# Altium schematic symbol library 6903 5710 xx 72.SchLib: 12 symbols
Pins are listed as number, name and electrical type; pins without a type are passive.

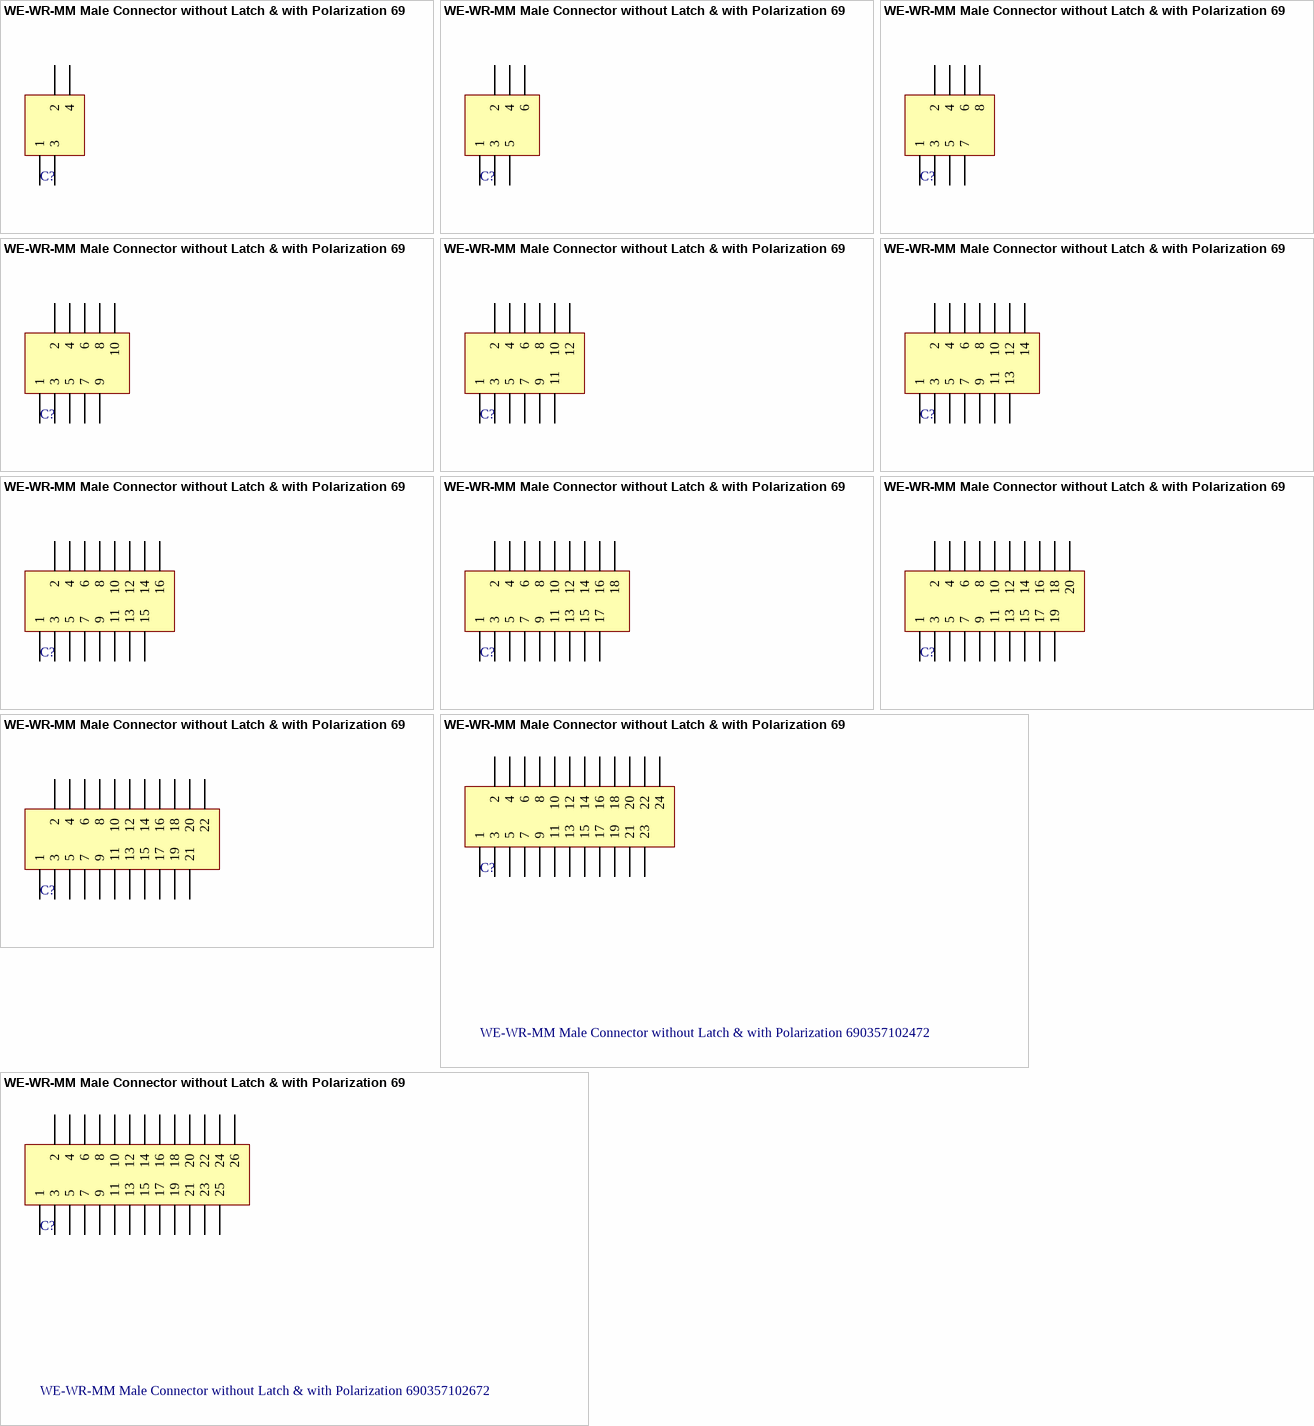
[diagram p0: symbols WE-WR-MM Male Connector without Latch & with Polarization 690357100472 to WE-WR-MM Male Connector without Latch & with Polarization 690357102672]

## WE-WR-MM Male Connector without Latch & with Polarization 690357100472
designator C?
WR-MM Male Connector without Latch & with Polarization; Manufacturer: Würth Elektronik eiSos GmbH; ComponentLink1 Description: Manufacturer; ComponentLink2 Description: Datasheet; NoPins: 4; Created Date: 19 April 2013; partNo: 690357100472; ComponentLink1URL: http://www.we-online.com; ComponentLink2URL: http://katalog.we-online.de/em/datasheet/69035710xx72.pdf; Created by: Karrer Zheng
footprint 690357100472 (4 pins, straight)
pins: 1, 2, 3, 4

## WE-WR-MM Male Connector without Latch & with Polarization 690357100672
designator C?
WR-MM Male Connector without Latch & with Polarization; Manufacturer: Würth Elektronik eiSos GmbH; ComponentLink1 Description: Manufacturer; ComponentLink2 Description: Datasheet; NoPins: 6; Created Date: 19 April 2013; partNo: 690357100672; ComponentLink1URL: http://www.we-online.com; ComponentLink2URL: http://katalog.we-online.de/em/datasheet/69035710xx72.pdf; Created by: Karrer Zheng
footprint 690357100672 (6 pins, straight)
pins: 1, 2, 3, 4, 5, 6

## WE-WR-MM Male Connector without Latch & with Polarization 690357100872
designator C?
WR-MM Male Connector without Latch & with Polarization; Manufacturer: Würth Elektronik eiSos GmbH; ComponentLink1 Description: Manufacturer; ComponentLink2 Description: Datasheet; NoPins: 8; Created Date: 19 April 2013; partNo: 690357100872; ComponentLink1URL: http://www.we-online.com; ComponentLink2URL: http://katalog.we-online.de/em/datasheet/69035710xx72.pdf; Created by: Karrer Zheng
footprint 690357100872 (8 pins, straight)
pins: 1, 2, 3, 4, 5, 6, 7, 8

## WE-WR-MM Male Connector without Latch & with Polarization 690357101072
designator C?
WR-MM Male Connector without Latch & with Polarization; Manufacturer: Würth Elektronik eiSos GmbH; ComponentLink1 Description: Manufacturer; ComponentLink2 Description: Datasheet; NoPins: 10; Created Date: 19 April 2013; partNo: 690357101072; ComponentLink1URL: http://www.we-online.com; ComponentLink2URL: http://katalog.we-online.de/em/datasheet/69035710xx72.pdf; Created by: Karrer Zheng
footprint 690357101072 (10 pins, straight)
pins: 1, 2, 3, 4, 5, 6, 7, 8, 9, 10

## WE-WR-MM Male Connector without Latch & with Polarization 690357101272
designator C?
WR-MM Male Connector without Latch & with Polarization; Manufacturer: Würth Elektronik eiSos GmbH; ComponentLink1 Description: Manufacturer; ComponentLink2 Description: Datasheet; NoPins: 12; Created Date: 19 April 2013; partNo: 690357101272; ComponentLink1URL: http://www.we-online.com; ComponentLink2URL: http://katalog.we-online.de/em/datasheet/69035710xx72.pdf; Created by: Karrer Zheng
footprint 690357101272 (12 pins, straight)
pins: 1, 2, 3, 4, 5, 6, 7, 8, 9, 10, 11, 12

## WE-WR-MM Male Connector without Latch & with Polarization 690357101472
designator C?
WR-MM Male Connector without Latch & with Polarization; Manufacturer: Würth Elektronik eiSos GmbH; ComponentLink1 Description: Manufacturer; ComponentLink2 Description: Datasheet; NoPins: 14; Created Date: 19 April 2013; partNo: 690357101472; ComponentLink1URL: http://www.we-online.com; ComponentLink2URL: http://katalog.we-online.de/em/datasheet/69035710xx72.pdf; Created by: Karrer Zheng
footprint 690357101472 (14 pins, straight)
pins: 1, 2, 3, 4, 5, 6, 7, 8, 9, 10, 11, 12, 13, 14

## WE-WR-MM Male Connector without Latch & with Polarization 690357101672
designator C?
WR-MM Male Connector without Latch & with Polarization; Manufacturer: Würth Elektronik eiSos GmbH; ComponentLink1 Description: Manufacturer; ComponentLink2 Description: Datasheet; NoPins: 16; Created Date: 19 April 2013; partNo: 690357101672; ComponentLink1URL: http://www.we-online.com; ComponentLink2URL: http://katalog.we-online.de/em/datasheet/69035710xx72.pdf; Created by: Karrer Zheng
footprint 690357101672 (16 pins, straight)
pins: 1, 2, 3, 4, 5, 6, 7, 8, 9, 10, 11, 12, 13, 14, 15, 16

## WE-WR-MM Male Connector without Latch & with Polarization 690357101872
designator C?
WR-MM Male Connector without Latch & with Polarization; Manufacturer: Würth Elektronik eiSos GmbH; ComponentLink1 Description: Manufacturer; ComponentLink2 Description: Datasheet; NoPins: 18; Created Date: 19 April 2013; partNo: 690357101872; ComponentLink1URL: http://www.we-online.com; ComponentLink2URL: http://katalog.we-online.de/em/datasheet/69035710xx72.pdf; Created by: Karrer Zheng
footprint 690357101872 (18 pins, straight)
pins: 1, 2, 3, 4, 5, 6, 7, 8, 9, 10, 11, 12, 13, 14, 15, 16, 17, 18

## WE-WR-MM Male Connector without Latch & with Polarization 690357102072
designator C?
WR-MM Male Connector without Latch & with Polarization; Manufacturer: Würth Elektronik eiSos GmbH; ComponentLink1 Description: Manufacturer; ComponentLink2 Description: Datasheet; NoPins: 20; Created Date: 19 April 2013; partNo: 690357102072; ComponentLink1URL: http://www.we-online.com; ComponentLink2URL: http://katalog.we-online.de/em/datasheet/69035710xx72.pdf; Created by: Karrer Zheng
footprint 690357102072 (20 pins, straight)
pins: 1, 2, 3, 4, 5, 6, 7, 8, 9, 10, 11, 12, 13, 14, 15, 16, 17, 18, 19, 20

## WE-WR-MM Male Connector without Latch & with Polarization 690357102272
designator C?
WR-MM Male Connector without Latch & with Polarization; Manufacturer: Würth Elektronik eiSos GmbH; ComponentLink1 Description: Manufacturer; ComponentLink2 Description: Datasheet; NoPins: 22; Created Date: 19 April 2013; partNo: 690357102272; ComponentLink1URL: http://www.we-online.com; ComponentLink2URL: http://katalog.we-online.de/em/datasheet/69035710xx72.pdf; Created by: Karrer Zheng
footprint 690357102272 (22 pins, straight)
pins: 1, 2, 3, 4, 5, 6, 7, 8, 9, 10, 11, 12, 13, 14, 15, 16, 17, 18, 19, 20, 21, 22

## WE-WR-MM Male Connector without Latch & with Polarization 690357102472
designator C?
WR-MM Male Connector without Latch & with Polarization; Manufacturer: Würth Elektronik eiSos GmbH; ComponentLink1 Description: Manufacturer; ComponentLink2 Description: Datasheet; NoPins: 24; Created Date: 19 April 2013; partNo: 690357102472; ComponentLink1URL: http://www.we-online.com; ComponentLink2URL: http://katalog.we-online.de/em/datasheet/69035710xx72.pdf; Created by: Karrer Zheng
footprint 690357102472 (24 pins, straight)
pins: 1, 2, 3, 4, 5, 6, 7, 8, 9, 10, 11, 12, 13, 14, 15, 16, 17, 18, 19, 20, 21, 22, 23, 24

## WE-WR-MM Male Connector without Latch & with Polarization 690357102672
designator C?
WR-MM Male Connector without Latch & with Polarization; Manufacturer: Würth Elektronik eiSos GmbH; ComponentLink1 Description: Manufacturer; ComponentLink2 Description: Datasheet; NoPins: 26; Created Date: 19 April 2013; partNo: 690357102672; ComponentLink1URL: http://www.we-online.com; ComponentLink2URL: http://katalog.we-online.de/em/datasheet/69035710xx72.pdf; Created by: Karrer Zheng
footprint 690357102672 (26 pins, straight)
pins: 1, 2, 3, 4, 5, 6, 7, 8, 9, 10, 11, 12, 13, 14, 15, 16, 17, 18, 19, 20, 21, 22, 23, 24, 25, 26